# EAGLE library part 8021 (library micro-intel)
MICROCOMPUTER/PERIPHERAL DEVICE
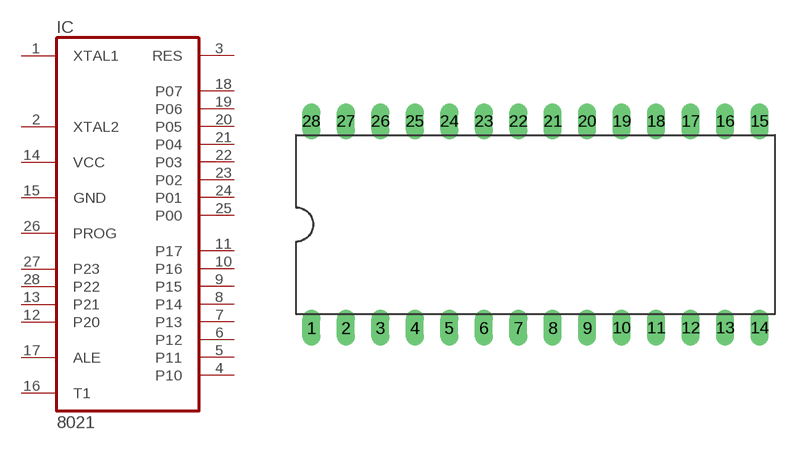
[diagram p15: symbol with the pads of DIL28-6; footprint DIL28-6]

Designator prefix IC

## 8021 (OC_FARNELL: unknown; OC_NEWARK: unknown)  [DIL28-6]
1  XTAL1  in
2  XTAL2  in
3  RES  in
4  P10
5  P11
6  P12
7  P13
8  P14
9  P15
10  P16
11  P17
12  P20
13  P21
14  VCC  pwr
15  GND  pwr
16  T1  in
17  ALE  out
18  P07
19  P06
20  P05
21  P04
22  P03
23  P02
24  P01
25  P00
26  PROG  out
27  P23
28  P22

## Footprint DIL28-6 (pad centres in mm)
Dual In Line Package 0.6 inch
drill 0.813 long: 1 -16.51,-7.62; 2 -13.97,-7.62; 3 -11.43,-7.62; 4 -8.89,-7.62; 5 -6.35,-7.62; 6 -3.81,-7.62; 7 -1.27,-7.62; 8 1.27,-7.62; 9 3.81,-7.62; 10 6.35,-7.62; 11 8.89,-7.62; 12 11.43,-7.62; 13 13.97,-7.62; 14 16.51,-7.62; 15 16.51,7.62; 16 13.97,7.62; 17 11.43,7.62; 18 8.89,7.62; 19 6.35,7.62; 20 3.81,7.62; 21 1.27,7.62; 22 -1.27,7.62; 23 -3.81,7.62; 24 -6.35,7.62; 25 -8.89,7.62; 26 -11.43,7.62; 27 -13.97,7.62; 28 -16.51,7.62